# EAGLE library part 1327МА015 (library microwave)
АЕНВ.431340.010 ТУ 1327МА015 - СВЧ МИС широкополосного квадратурного модулятора прямого преобразования с диапазоном рабочих частот 0.7 – 6.0 ГГц. Микросхема выполнена по SiGe БиКМОП технологии с проектными нормами 0.25 мкм с 5-ю слоями металлизации и поликремневыми резисторами. Производитель: АО «НИИМА «ПРОГРЕСС», г. Москва. Технические условия: АЕНВ.431340.010 ТУ
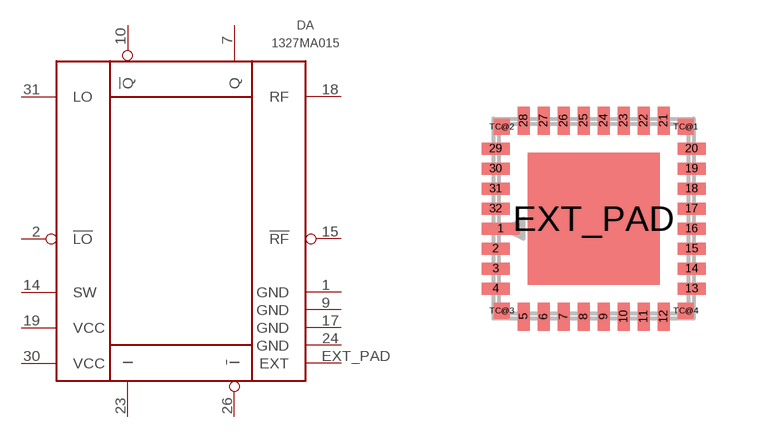
[diagram p1: symbol with the pads of 5102.32-1К; footprint 5102.32-1К]

Designator prefix DA

## 1327МА015  [5102.32-1К]
1  GND  pwr
2  !LO  in
7  Q  in
9  GND  pwr
10  !Q  in
14  SW
15  !RF  out
17  GND  pwr
18  RF  out
19  VCC  pwr
23  I  in
24  GND  pwr
26  !I  in
30  VCC  pwr
31  LO  in
EXT_PAD  EXT  pwr

## Footprint 5102.32-1К (pad centres in mm)
smd 0.95 x 0.3: 1 -2.325,-0.25
smd 0.7 x 0.3: 2 -2.45,-0.75; 3 -2.45,-1.25; 4 -2.45,-1.75; 13 2.45,-1.75; 14 2.45,-1.25; 15 2.45,-0.75; 16 2.45,-0.25; 17 2.45,0.25; 18 2.45,0.75; 19 2.45,1.25; 20 2.45,1.75; 29 -2.45,1.75; 30 -2.45,1.25; 31 -2.45,0.75; 32 -2.45,0.25
smd 0.3 x 0.7: 5 -1.75,-2.45; 6 -1.25,-2.45; 7 -0.75,-2.45; 8 -0.25,-2.45; 9 0.25,-2.45; 10 0.75,-2.45; 11 1.25,-2.45; 12 1.75,-2.45; 21 1.75,2.45; 22 1.25,2.45; 23 0.75,2.45; 24 0.25,2.45; 25 -0.25,2.45; 26 -0.75,2.45; 27 -1.25,2.45; 28 -1.75,2.45
smd 3.3 x 3.3: EXT_PAD 0,0
smd 0.4 x 0.4: TC@1 2.3,2.3; TC@2 -2.3,2.3; TC@3 -2.3,-2.3; TC@4 2.3,-2.3